# EAGLE library part LTC1562CG#PBF (library filtercard_parts)
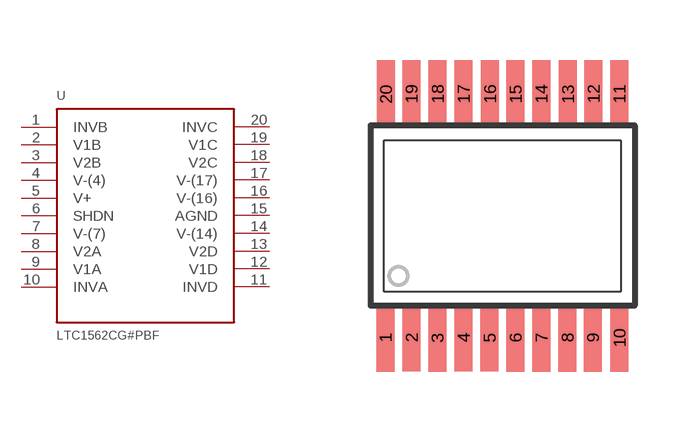
[diagram p0: symbol with the pads of TSSOP20; footprint TSSOP20]

Designator prefix -

## LTC1562CG#PBF  [TSSOP20]
1  INVB
2  V1B
3  V2B
4  V-(4)
5  V+
6  SHDN
7  V-(7)
8  V2A
9  V1A
10  INVA
11  INVD
12  V1D
13  V2D
14  V-(14)
15  AGND
16  V-(16)
17  V-(17)
18  V2C
19  V1C
20  INVC

## Footprint TSSOP20 (pad centres in mm)
Package LP: 20-Pin, 0.65 mm Pin Pitch TSSOP with Exposed Thermal Pad
smd 0.45 x 1.7: 1 -2.927,-3.047; 2 -2.272,-3.042; 3 -1.627,-3.052; 4 -0.972,-3.042; 5 -0.322,-3.042; 6 0.328,-3.047; 7 0.978,-3.047; 8 1.628,-3.047; 9 2.263,-3.047; 10 2.928,-3.052; 11 2.923,3.052; 12 2.278,3.057; 13 1.638,3.047; 14 0.973,3.052; 15 0.328,3.052; 16 -0.312,3.052; 17 -0.972,3.052; 18 -1.622,3.052; 19 -2.277,3.052; 20 -2.917,3.047